# Altium footprint library ReRAM_Footprints.PcbLib: 17 footprints (part 1 of 2)
Each footprint in its own frame and in the unit in brackets; x right, y up, seen from the top. Pads: shape width x height; smd on the part's side, far side on the other; paste and mask are expansions set on the pad; w line width, h text height; cw(c..) or ccw(c..) is an arc to the next point about the centre after c.
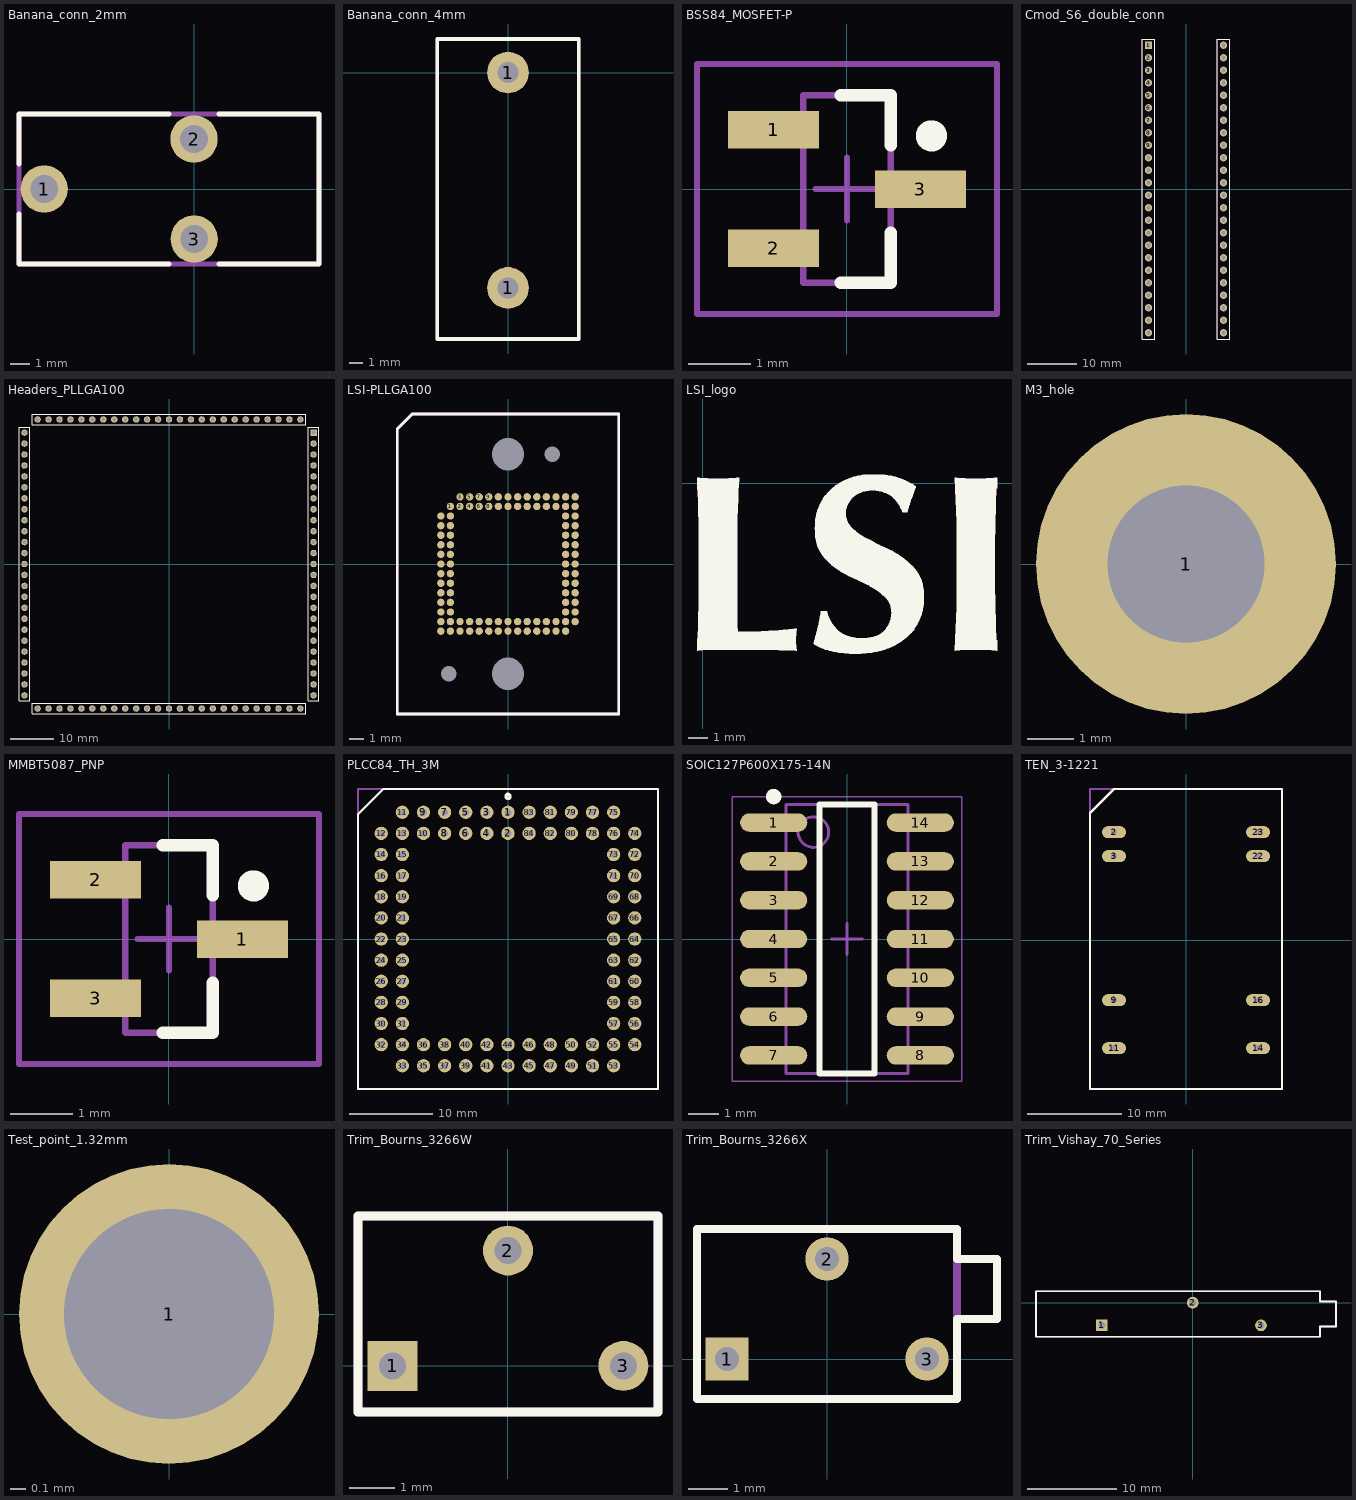
[diagram p0: the footprints below, top view; thin cyan lines are the x and y axes]

## Banana_conn_2mm [mm]
height 8
pads (3):
  round 2.4 hole 1.4: 1(-7.61,0) 2(0,2.54) 3(0.01,-2.54)
Top Overlay:
  lines w0.254: -8.89,-1.27 -8.89,-3.81 -1.27,-3.81 ; -8.89,1.27 -8.89,3.81 -1.27,3.81 ; 1.27,-3.81 6.35,-3.81 6.35,2.54 6.35,3.81 1.27,3.81
Mechanical 13:
  lines w0.254: -8.88,-3.81 6.35,-3.81 6.35,3.81 -8.88,3.81 -8.88,-3.81

## Banana_conn_4mm [mm]
height 13.5
pads (2):
  round 3 hole 1.5: 1(0,-15.5) 1(0,0)
Top Overlay:
  lines w0.254: 5.08,-19.177 -5.1,-19.177 -5.1,-18.4 -5.1,2.413 5.1,2.413 5.1,-18.4 5.1,-19.177
Mechanical 13:
  lines w0.254: -5.1,-19.177 5.1,-19.177 5.1,2.413 -5.1,2.413 -5.1,-19.177

## BSS84_MOSFET-P [mm]
pads (3):
  rect 1.45x0.6 smd: 1(-1.175,0.95) 2(-1.175,-0.95) 3(1.175,0)
Top Overlay:
  circle w0.25: c1.35,0.85 r0.125
  lines w0.2: -0.1,-1.5 0.7,-1.5 0.7,-0.7 ; -0.1,1.5 0.7,1.5 0.7,0.7
Mechanical 13:
  lines w0.1: -0.7,-1.5 -0.7,1.5 0.7,1.5 0.7,-1.5 -0.7,-1.5
Mechanical 15:
  lines w0.1: -0.5,0 0.5,0 ; 0,-0.5 0,0.5 ; -2.4,-2 -2.4,2 2.4,2 2.4,-2 -2.4,-2
3D body: height 1.1, standoff 0, extent -0.7,-1.5 0.7,1.5

## Cmod_S6_double_conn [mm]
pads (48):
  rect 1.5x1.5 hole 0.9: 1(-7.62,29.21)
  round 1.5 hole 0.9: 2(-7.62,26.67) 3(-7.62,24.13) 4(-7.62,21.59) 5(-7.62,19.05) 6(-7.62,16.51) 7(-7.62,13.97) 8(-7.62,11.43) 9(-7.62,8.89) 10(-7.62,6.35) 11(-7.62,3.81) 12(-7.62,1.27) 13(-7.62,-1.27) 14(-7.62,-3.81) 15(-7.62,-6.35) 16(-7.62,-8.89) 17(-7.62,-11.43) 18(-7.62,-13.97) 19(-7.62,-16.51) 20(-7.62,-19.05) 21(-7.62,-21.59) 22(-7.62,-24.13) 23(-7.62,-26.67) 24(-7.62,-29.21) 25(7.62,-29.21) 26(7.62,-26.67) 27(7.62,-24.13) 28(7.62,-21.59) 29(7.62,-19.05) 30(7.62,-16.51) 31(7.62,-13.97) 32(7.62,-11.43) 33(7.62,-8.89) 34(7.62,-6.35) 35(7.62,-3.81) 36(7.62,-1.27) 37(7.62,1.27) 38(7.62,3.81) 39(7.62,6.35) 40(7.62,8.89) 41(7.62,11.43) 42(7.62,13.97) 43(7.62,16.51) 44(7.62,19.05) 45(7.62,21.59) 46(7.62,24.13) 47(7.62,26.67) 48(7.62,29.21)
Top Overlay:
  lines w0.2: -8.89,-30.48 -6.35,-30.48 -6.35,28.575 -6.35,30.48 -8.89,30.48 -8.89,-30.48 ; 6.35,-30.48 6.35,30.48 8.89,30.48 8.89,28.575 8.89,-30.48 6.35,-30.48
Mechanical 13:
  lines w0.254: -8.89,-30.48 -8.89,30.48 -6.35,30.48 -6.35,-30.48 -8.89,-30.48 ; 6.35,-30.48 6.35,30.48 8.89,30.48 8.89,-30.48 6.35,-30.48

## Headers_PLLGA100 [mm]
pads (100):
  rect 1.5x1.5 hole 0.9: 1(33.528,30.48)
  round 1.5 hole 0.9: 2(33.528,27.94) 3(33.528,25.4) 4(33.528,22.86) 5(33.528,20.32) 6(33.528,17.78) 7(33.528,15.24) 8(33.528,12.7) 9(33.528,10.16) 10(33.528,7.62) 11(33.528,5.08) 12(33.528,2.54) 13(33.528,0) 14(33.528,-2.54) 15(33.528,-5.08) 16(33.528,-7.62) 17(33.528,-10.16) 18(33.528,-12.7) 19(33.528,-15.24) 20(33.528,-17.78) 21(33.528,-20.32) 22(33.528,-22.86) 23(33.528,-25.4) 24(33.528,-27.94) 25(33.528,-30.48) 26(30.48,-33.528) 27(27.94,-33.528) 28(25.4,-33.528) 29(22.86,-33.528) 30(20.32,-33.528) 31(17.78,-33.528) 32(15.24,-33.528) 33(12.7,-33.528) 34(10.16,-33.528) 35(7.62,-33.528) 36(5.08,-33.528) 37(2.54,-33.528) 38(0,-33.528) 39(-2.54,-33.528) 40(-5.08,-33.528) 41(-7.62,-33.528) 42(-10.16,-33.528) 43(-12.7,-33.528) 44(-15.24,-33.528) 45(-17.78,-33.528) 46(-20.32,-33.528) 47(-22.86,-33.528) 48(-25.4,-33.528) 49(-27.94,-33.528) 50(-30.48,-33.528) 51(-33.528,-30.48) 52(-33.528,-27.94) 53(-33.528,-25.4) 54(-33.528,-22.86) 55(-33.528,-20.32) 56(-33.528,-17.78) 57(-33.528,-15.24) 58(-33.528,-12.7) 59(-33.528,-10.16) 60(-33.528,-7.62) 61(-33.528,-5.08) 62(-33.528,-2.54) 63(-33.528,0) 64(-33.528,2.54) 65(-33.528,5.08) 66(-33.528,7.62) 67(-33.528,10.16) 68(-33.528,12.7) 69(-33.528,15.24) 70(-33.528,17.78) 71(-33.528,20.32) 72(-33.528,22.86) 73(-33.528,25.4) 74(-33.528,27.94) 75(-33.528,30.48) 76(-30.48,33.528) 77(-27.94,33.528) 78(-25.4,33.528) 79(-22.86,33.528) 80(-20.32,33.528) 81(-17.78,33.528) 82(-15.24,33.528) 83(-12.7,33.528) 84(-10.16,33.528) 85(-7.62,33.528) 86(-5.08,33.528) 87(-2.54,33.528) 88(0,33.528) 89(2.54,33.528) 90(5.08,33.528) 91(7.62,33.528) 92(10.16,33.528) 93(12.7,33.528) 94(15.24,33.528) 95(17.78,33.528) 96(20.32,33.528) 97(22.86,33.528) 98(25.4,33.528) 99(27.94,33.528) 100(30.48,33.528)
Top Overlay:
  lines w0.2: -34.798,-31.75 -32.258,-31.75 -32.258,29.845 -32.258,31.75 -34.798,31.75 -34.798,-31.75 ; -31.75,-34.798 29.845,-34.798 31.75,-34.798 31.75,-32.258 -31.75,-32.258 -31.75,-34.798 ; -31.75,32.258 -31.75,34.798 -29.845,34.798 31.75,34.798 31.75,32.258 -31.75,32.258 ; 32.258,-31.75 34.798,-31.75 34.798,29.845 34.798,31.75 32.258,31.75 32.258,-31.75

## LSI-PLLGA100 [mm]
height 23
pads (104):
  round 0.5 smd: 1(-3.9,3.9) 2(-3.25,3.9) 3(-3.25,4.55) 4(-2.6,3.9) 5(-2.6,4.55) 6(-1.95,3.9) 7(-1.95,4.55) 8(-1.3,3.9) 9(-1.3,4.55) 10(-0.65,3.9) 11(-0.65,4.55) 12(0,3.9) 13(0,4.55) 14(0.65,3.9) 15(0.65,4.55) 16(1.3,3.9) 17(1.3,4.55) 18(1.95,3.9) 19(1.95,4.55) 20(2.6,3.9) 21(2.6,4.55) 22(3.25,3.9) 23(3.25,4.55) 24(3.9,4.55) 25(4.55,4.55) 26(3.9,3.9) 27(4.55,3.9) 28(3.9,3.25) 29(4.55,3.25) 30(3.9,2.6) 31(4.55,2.6) 32(3.9,1.95) 33(4.55,1.95) 34(3.9,1.3) 35(4.55,1.3) 36(3.9,0.65) 37(4.55,0.65) 38(3.9,0) 39(4.55,0) 40(3.9,-0.65) 41(4.55,-0.65) 42(3.9,-1.3) 43(4.55,-1.3) 44(3.9,-1.95) 45(4.55,-1.95) 46(3.9,-2.6) 47(4.55,-2.6) 48(3.9,-3.25) 49(4.55,-3.25) 50(4.55,-3.9) 51(3.9,-3.9) 52(3.9,-4.55) 53(3.25,-3.9) 54(3.25,-4.55) 55(2.6,-3.9) 56(2.6,-4.55) 57(1.95,-3.9) 58(1.95,-4.55) 59(1.3,-3.9) 60(1.3,-4.55) 61(0.65,-3.9) 62(0.65,-4.55) 63(0,-3.9) 64(0,-4.55) 65(-0.65,-3.9) 66(-0.65,-4.55) 67(-1.3,-3.9) 68(-1.3,-4.55) 69(-1.95,-3.9) 70(-1.95,-4.55) 71(-2.6,-3.9) 72(-2.6,-4.55) 73(-3.25,-3.9) 74(-3.25,-4.55) 75(-3.9,-4.55) 76(-4.55,-4.55) 77(-3.9,-3.9) 78(-4.55,-3.9) 79(-3.9,-3.25) 80(-4.55,-3.25) 81(-3.9,-2.6) 82(-4.55,-2.6) 83(-3.9,-1.95) 84(-4.55,-1.95) 85(-3.9,-1.3) 86(-4.55,-1.3) 87(-3.9,-0.65) 88(-4.55,-0.65) 89(-3.9,0) 90(-4.55,0) 91(-3.9,0.65) 92(-4.55,0.65) 93(-3.9,1.3) 94(-4.55,1.3) 95(-3.9,1.95) 96(-4.55,1.95) 97(-3.9,2.6) 98(-4.55,2.6) 99(-3.9,3.25) 100(-4.55,3.25)
  round 0 hole 1.05 unplated paste+0 mask+0: ""(-4,-7.425) ""(3,7.425)
  round 0 hole 2.2 unplated paste+0 mask+0: ""(0,-7.425) ""(0,7.425)
Top Overlay:
  lines w0.2: -7.5,-10.16 -7.5,9.15 -6.49,10.16 7.5,10.16 7.5,-10.16 -7.5,-10.16
Mechanical 13:
  lines w0.2: -7.5,-10.16 7.5,-10.16 7.5,10.16 -6.49,10.16 -7.5,9.15 -7.5,-10.16

## LSI_logo [mm]
Top Overlay:
  drawing of 1158 lines, arcs and shapes, not listed

## M3_hole [mm]
pads (1):
  round 6.5 hole 3.4 mask+0.5: 1(0,0)

## MMBT5087_PNP [mm]
pads (3):
  rect 1.45x0.6 smd: 1(1.175,0) 2(-1.175,0.95) 3(-1.175,-0.95)
Top Overlay:
  circle w0.25: c1.35,0.85 r0.125
  lines w0.2: -0.1,-1.5 0.7,-1.5 0.7,-0.7 ; -0.1,1.5 0.7,1.5 0.7,0.7
Mechanical 13:
  lines w0.1: -0.7,-1.5 0.7,-1.5 0.7,1.5 -0.7,1.5 -0.7,-1.5
Mechanical 15:
  lines w0.1: -0.5,0 0.5,0 ; 0,-0.5 0,0.5 ; -2.4,-2 2.4,-2 2.4,2 -2.4,2 -2.4,-2
3D body: height 1.1, standoff 0, extent -0.7,-1.5 0.7,1.5

## PLCC84_TH_3M [mm]
height 8.5
pads (84):
  round 1.6 hole 0.8: 1(0,15.24) 2(0,12.7) 3(-2.54,15.24) 4(-2.54,12.7) 5(-5.08,15.24) 6(-5.08,12.7) 7(-7.62,15.24) 8(-7.62,12.7) 9(-10.16,15.24) 10(-10.16,12.7) 11(-12.7,15.24) 12(-15.24,12.7) 13(-12.7,12.7) 14(-15.24,10.16) 15(-12.7,10.16) 16(-15.24,7.62) 17(-12.7,7.62) 18(-15.24,5.08) 19(-12.7,5.08) 20(-15.24,2.54) 21(-12.7,2.54) 22(-15.24,0) 23(-12.7,0) 24(-15.24,-2.54) 25(-12.7,-2.54) 26(-15.24,-5.08) 27(-12.7,-5.08) 28(-15.24,-7.62) 29(-12.7,-7.62) 30(-15.24,-10.16) 31(-12.7,-10.16) 32(-15.24,-12.7) 33(-12.7,-15.24) 34(-12.7,-12.7) 35(-10.16,-15.24) 36(-10.16,-12.7) 37(-7.62,-15.24) 38(-7.62,-12.7) 39(-5.08,-15.24) 40(-5.08,-12.7) 41(-2.54,-15.24) 42(-2.54,-12.7) 43(0,-15.24) 44(0,-12.7) 45(2.54,-15.24) 46(2.54,-12.7) 47(5.08,-15.24) 48(5.08,-12.7) 49(7.62,-15.24) 50(7.62,-12.7) 51(10.16,-15.24) 52(10.16,-12.7) 53(12.7,-15.24) 54(15.24,-12.7) 55(12.7,-12.7) 56(15.24,-10.16) 57(12.7,-10.16) 58(15.24,-7.62) 59(12.7,-7.62) 60(15.24,-5.08) 61(12.7,-5.08) 62(15.24,-2.54) 63(12.7,-2.54) 64(15.24,0) 65(12.7,0) 66(15.24,2.54) 67(12.7,2.54) 68(15.24,5.08) 69(12.7,5.08) 70(15.24,7.62) 71(12.7,7.62) 72(15.24,10.16) 73(12.7,10.16) 74(15.24,12.7) 75(12.7,15.24) 76(12.7,12.7) 77(10.16,15.24) 78(10.16,12.7) 79(7.62,15.24) 80(7.62,12.7) 81(5.08,15.24) 82(5.08,12.7) 83(2.54,15.24) 84(2.54,12.7)
Top Overlay:
  circle w0.4: c0,17.145 r0.25
  lines w0.254: -18.034,-18.034 18.034,-18.034 18.034,18.034 -14.986,18.034 -18.034,14.986 -18.034,-18.034
Mechanical 13:
  lines w0.254: -18.034,-18.034 18.034,-18.034 18.034,18.034 -18.034,18.034 -18.034,-18.034

## SOIC127P600X175-14N [mm] "SOIC, 14-Leads, Body 8.65x3.90mm, Pitch 1.27mm, IPC Medium Density"
height 1.75
pads (14):
  oval 2.2x0.6 smd: 1(-2.4,3.81) 2(-2.4,2.54) 3(-2.4,1.27) 4(-2.4,0) 5(-2.4,-1.27) 6(-2.4,-2.54) 7(-2.4,-3.81) 8(2.4,-3.81) 9(2.4,-2.54) 10(2.4,-1.27) 11(2.4,0) 12(2.4,1.27) 13(2.4,2.54) 14(2.4,3.81)
Top Overlay:
  circle w0.25: c-2.4,4.66 r0.125
  lines w0.2: -0.9,-4.4 -0.9,4.4 0.9,4.4 0.9,-4.4 -0.9,-4.4
Mechanical 13:
  circle w0.1: c-1.1,3.5 r0.5
  lines w0.1: -2,-4.4 -2,4.4 2,4.4 2,-4.4 -2,-4.4
Mechanical 15:
  lines w0.05: -3.75,-4.65 -3.75,4.65 3.75,4.65 3.75,-4.65 -3.75,-4.65
  lines w0.1: -0.5,0 0.5,0 ; 0,-0.5 0,0.5
3D body: height 1.75, standoff 0.1, extent -2,-4.4 2,4.4

## TEN_3-1221 [mm]
height 11
pads (8):
  oval 2.54x1.27 hole 0.635: 2(-7.62,11.43) 3(-7.62,8.89) 9(-7.62,-6.35) 11(-7.62,-11.43) 14(7.62,-11.43) 16(7.62,-6.35) 22(7.62,8.89) 23(7.62,11.43)
Top Overlay:
  lines w0.254: -10.16,-15.748 10.16,-15.748 10.16,16.002 -7.62,16.002 -10.16,13.462 -10.16,-15.748
Mechanical 13:
  lines w0.254: -10.16,-15.748 -10.16,16.002 10.16,16.002 10.16,-15.748 -10.16,-15.748

## Test_point_1.32mm [mm]
pads (1):
  round 2 hole 1.4: 1(0,0)

## Trim_Bourns_3266W [mm]
height 7
pads (3):
  rect 1.1x1.1 hole 0.6: 1(-2.54,0)
  round 1.1 hole 0.6: 2(0,2.54) 3(2.54,0)
Top Overlay:
  lines w0.2: -3.302,-1.016 3.302,-1.016 3.302,2.032 3.302,3.302 2.032,3.302 -3.302,3.302 -3.302,-1.016
Mechanical 13:
  lines w0.2: -3.302,-1.016 -3.302,3.302 3.302,3.302 3.302,-1.016 -3.302,-1.016

## Trim_Bourns_3266X [mm]
height 7
pads (3):
  rect 1.1x1.1 hole 0.6: 1(-2.54,0)
  round 1.1 hole 0.6: 2(0,2.54) 3(2.54,0)
Top Overlay:
  lines w0.2: -3.302,-1.016 3.302,-1.016 3.302,1.016 4.318,1.016 4.318,2.54 3.302,2.54 3.302,3.302 2.032,3.302 -3.302,3.302 -3.302,-1.016
Mechanical 13:
  lines w0.2: -3.302,-1.016 3.302,-1.016 3.302,2.032 3.302,3.302 -3.302,3.302 -3.302,-1.016

## Trim_Vishay_70_Series [mm]
height 8.5
pads (3):
  rect 1.3x1.3 hole 0.8: 1(-10.16,-2.54)
  round 1.3 hole 0.8: 2(0,0) 3(7.62,-2.54)
Top Overlay:
  lines w0.2: -17.526,-3.81 -17.526,1.27 14.224,1.27 14.224,0.127 16.002,0.127 16.002,-2.667 14.224,-2.667 14.224,-3.81 -17.526,-3.81
Mechanical 13:
  lines w0.2: -17.526,-3.81 -17.526,1.27 14.224,1.27 14.224,0.127 16.002,0.127 16.002,-2.667 14.224,-2.667 14.224,-3.81 -17.526,-3.81